# Altium integrated library NSC Interface.IntLib: 511 symbols (part 8 of 17)
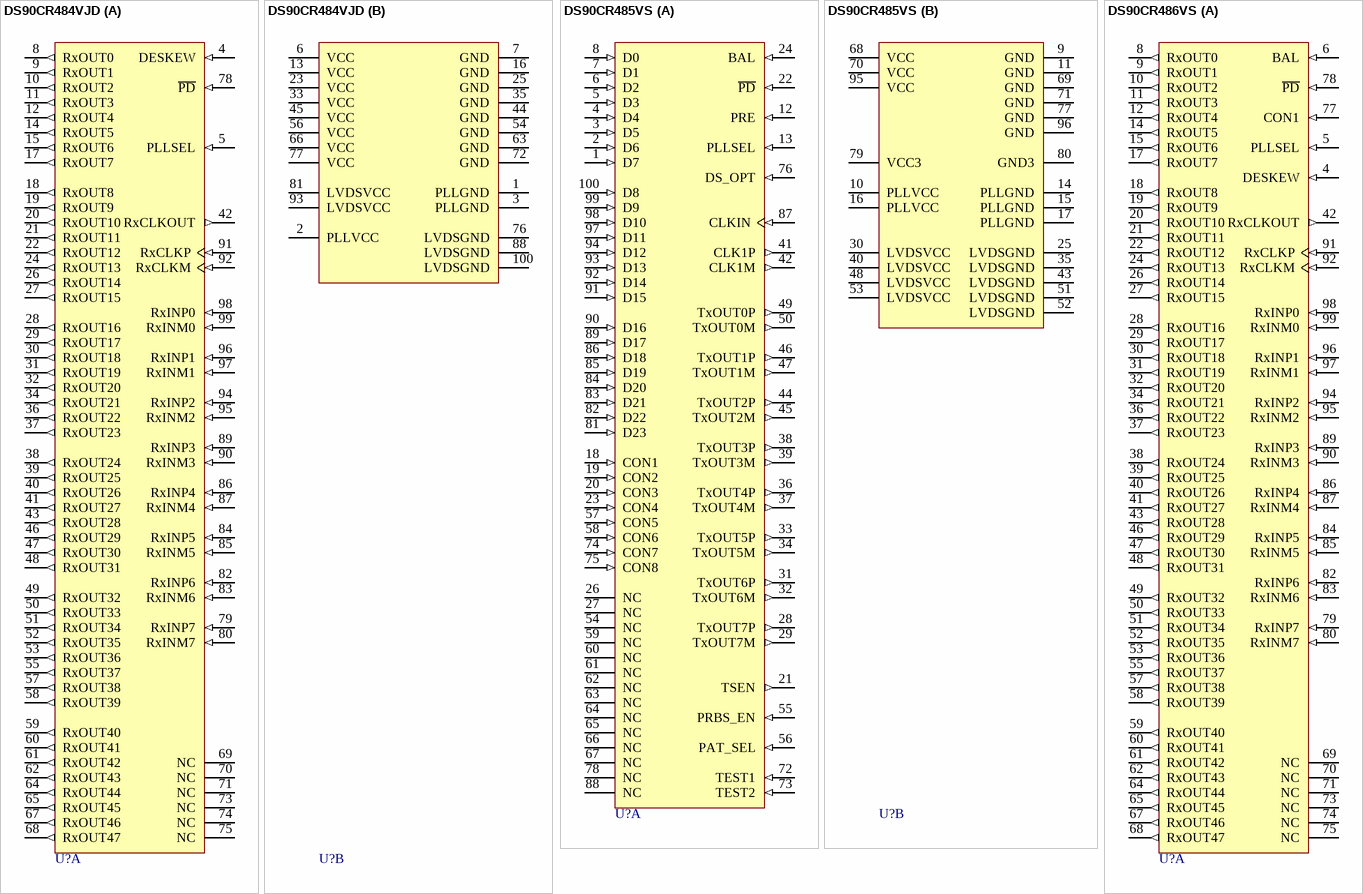
[diagram p49: symbols DS90CR484VJD to DS90CR486VS]

## DS90CR485VS
designator U?
133MHz LVDS 48-bit Channel Link Serializer; PartNumber: DS90CR485VS; Manufacturer: National Semiconductor; CompType: Interface IC; PackageTopMarking: NSUZXYYTT*DS90CR485VS*BBBBB; PowerWise: N; Published: 4-Dec-2008; DatasheetVersion: Sep-2003; PackageVersion: revC, May-2004; PackageReference: VJD100A; Publisher: Altium Limited; PackageDescription: TQFP, Jedec, Metric, 14 x 14 x 1.0mm, 100 Lead; RoHS: O; PinCount: 100; DigiKeyPartNumber: DS90CR485VS-ND; Code_JEDEC: MS-026-AED; ComponentLink1Description: DS90CR485 Datasheet; ComponentLink1URL: http://www.national.com/ds/DS/DS90CR485.pdf; ComponentLink2Description: DS90CR485 Web Page; ComponentLink2URL: http://www.national.com/pf/DS/DS90CR485.html; ComponentLink3Description: VJD100A Package Page; ComponentLink3URL: http://www.national.com/packaging/folders/vjd100a.html
footprint VJD100A_N (Thin QFP, 100-Leads, Body 14x14mm, Pitch 0.5mm, IPC Medium Density)
footprint VJD100A_L (Thin QFP, 100-Leads, Body 14x14mm, Pitch 0.5mm, IPC High Density)
footprint VJD100A_M (Thin QFP, 100-Leads, Body 14x14mm, Pitch 0.5mm, IPC Low Density)
part A pins: 1 D7 (in), 2 D6 (in), 3 D5 (in), 4 D4 (in), 5 D3 (in), 6 D2 (in), 7 D1 (in), 8 D0 (in), 12 PRE (in), 13 PLLSEL (in), 18 CON1 (in), 19 CON2 (in), 20 CON3 (in), 21 TSEN (out), 22 ~{PD} (in), 23 CON4 (in), 24 BAL (in), 26 NC, 27 NC, 28 TxOUT7P (out), 29 TxOUT7M (out), 31 TxOUT6P (out), 32 TxOUT6M (out), 33 TxOUT5P (out), 34 TxOUT5M (out), 36 TxOUT4P (out), 37 TxOUT4M (out), 38 TxOUT3P (out), 39 TxOUT3M (out), 41 CLK1P (out), 42 CLK1M (out), 44 TxOUT2P (out), 45 TxOUT2M (out), 46 TxOUT1P (out), 47 TxOUT1M (out), 49 TxOUT0P (out), 50 TxOUT0M (out), 54 NC, 55 PRBS_EN (in), 56 PAT_SEL (in), 57 CON5 (in), 58 CON6 (in), 59 NC, 60 NC, 61 NC, 62 NC, 63 NC, 64 NC, 65 NC, 66 NC, 67 NC, 72 TEST1 (in), 73 TEST2 (in), 74 CON7 (in), 75 CON8 (in), 76 DS_OPT (in), 78 NC, 81 D23 (in), 82 D22 (in), 83 D21 (in), 84 D20 (in), 85 D19 (in), 86 D18 (in), 87 CLKIN (in), 88 NC, 89 D17 (in), 90 D16 (in), 91 D15 (in), 92 D14 (in), 93 D13 (in), 94 D12 (in), 97 D11 (in), 98 D10 (in), 99 D9 (in), 100 D8 (in)
part B pins: 9 GND (power), 10 PLLVCC (power), 11 GND (power), 14 PLLGND (power), 15 PLLGND (power), 16 PLLVCC (power), 17 PLLGND (power), 25 LVDSGND (power), 30 LVDSVCC (power), 35 LVDSGND (power), 40 LVDSVCC (power), 43 LVDSGND (power), 48 LVDSVCC (power), 51 LVDSGND (power), 52 LVDSGND (power), 53 LVDSVCC (power), 68 VCC (power), 69 GND (power), 70 VCC (power), 71 GND (power), 77 GND (power), 79 VCC3 (power), 80 GND3 (power), 95 VCC (power), 96 GND (power)

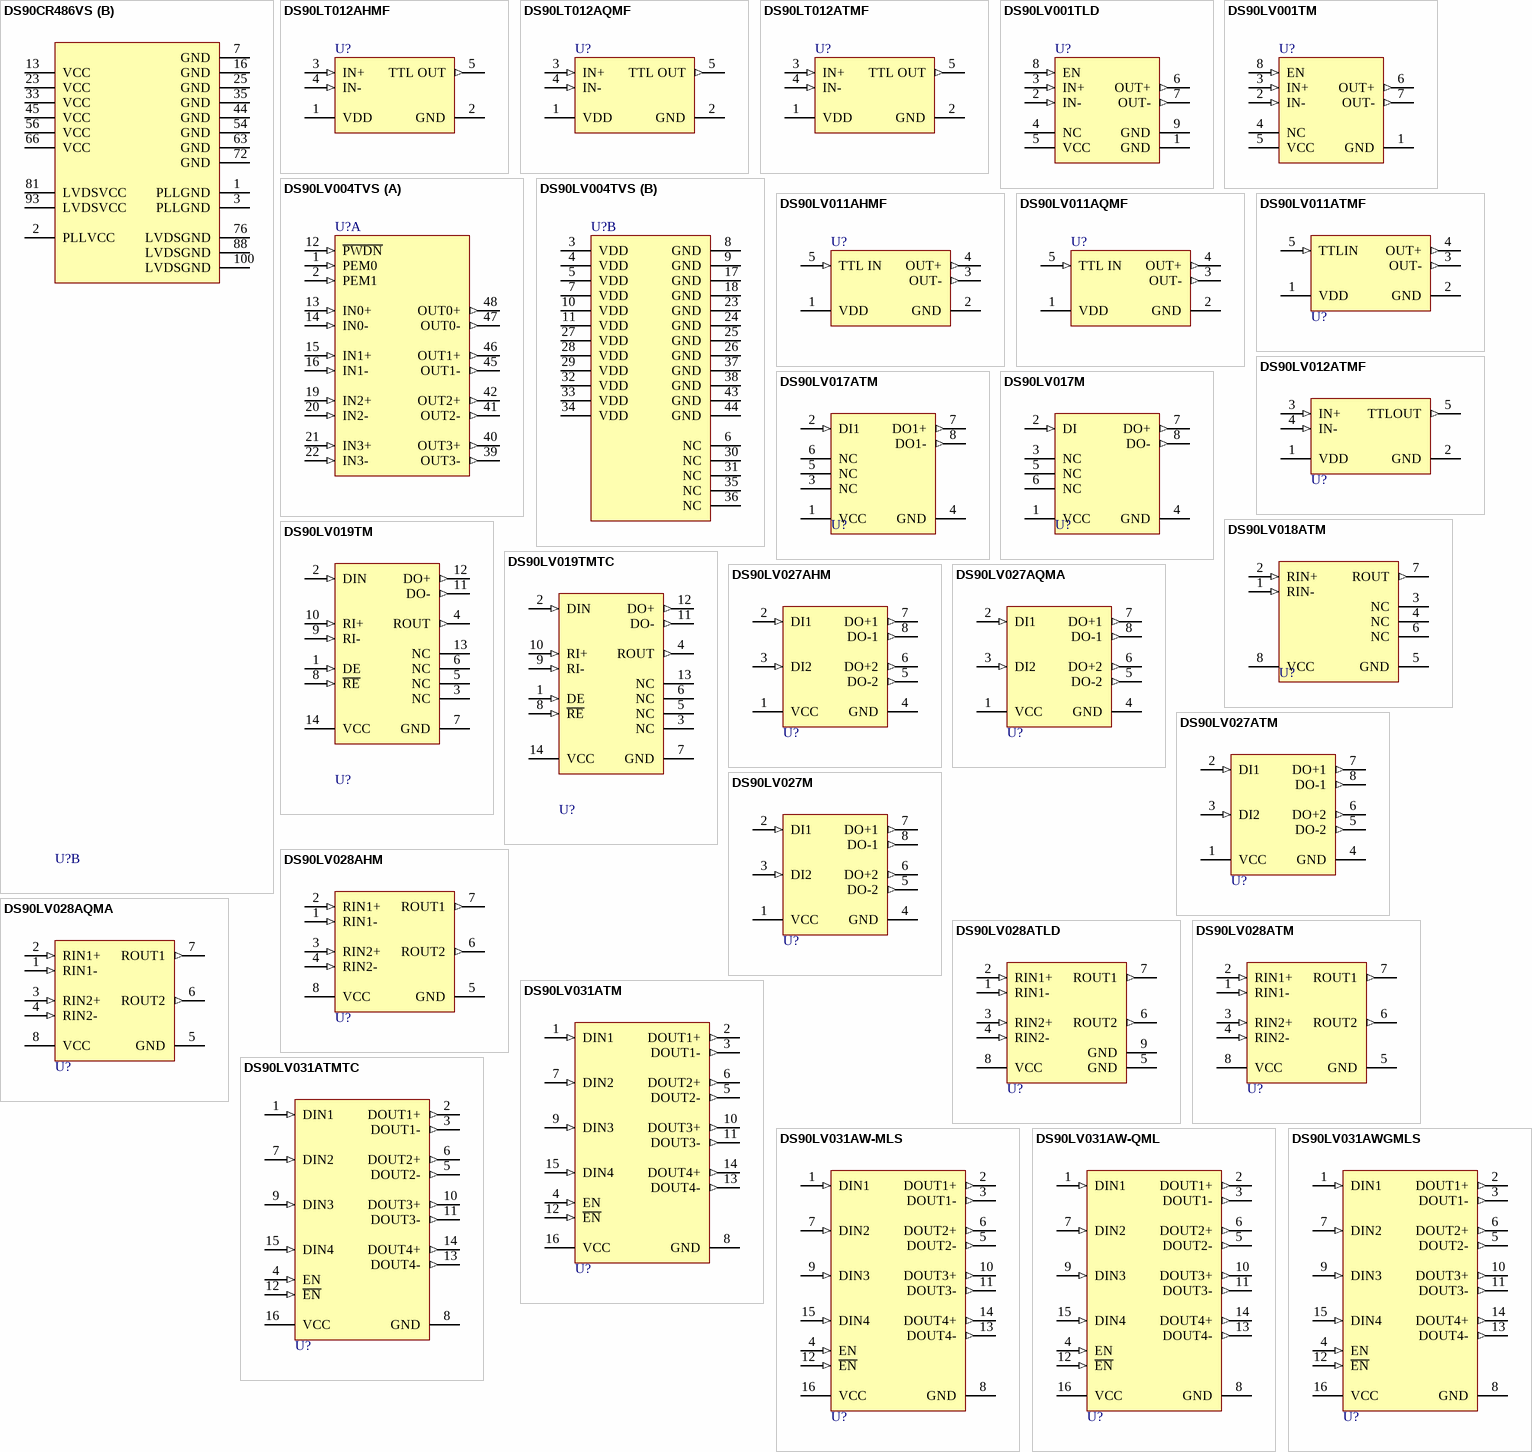
[diagram p22: symbols DS90CR486VS to DS90LV031AWGMLS]

## DS90CR486VS
designator U?
Deserializer; PartNumber: DS90CR486VS; Manufacturer: National Semiconductor; CompType: Interface IC; PackageTopMarking: NS2ZXYYTT*DS90CR486VS*BBBBB; PowerWise: N; Published: 4-Dec-2008; DatasheetVersion: Nov-2006; PackageVersion: revC, May-2004; PackageReference: VJD100A; Publisher: Altium Limited; PackageDescription: TQFP, Jedec, Metric, 14 x 14 x 1.0mm, 100 Lead; RoHS: O; PinCount: 100; DigiKeyPartNumber: DS90CR486VS-ND; Code_JEDEC: MS-026-AED; ComponentLink1Description: DS90CR486 Datasheet; ComponentLink1URL: http://www.national.com/ds/DS/DS90CR486.pdf; ComponentLink2Description: DS90CR486 Web Page; ComponentLink2URL: http://www.national.com/pf/DS/DS90CR486.html; ComponentLink3Description: VJD100A Package Page; ComponentLink3URL: http://www.national.com/packaging/folders/vjd100a.html
footprint VJD100A_N (Thin QFP, 100-Leads, Body 14x14mm, Pitch 0.5mm, IPC Medium Density)
footprint VJD100A_L (Thin QFP, 100-Leads, Body 14x14mm, Pitch 0.5mm, IPC High Density)
footprint VJD100A_M (Thin QFP, 100-Leads, Body 14x14mm, Pitch 0.5mm, IPC Low Density)
part A pins: 4 DESKEW (in), 5 PLLSEL (in), 6 BAL (in), 8 RxOUT0 (out), 9 RxOUT1 (out), 10 RxOUT2 (out), 11 RxOUT3 (out), 12 RxOUT4 (out), 14 RxOUT5 (out), 15 RxOUT6 (out), 17 RxOUT7 (out), 18 RxOUT8 (out), 19 RxOUT9 (out), 20 RxOUT10 (out), 21 RxOUT11 (out), 22 RxOUT12 (out), 24 RxOUT13 (out), 26 RxOUT14 (out), 27 RxOUT15 (out), 28 RxOUT16 (out), 29 RxOUT17 (out), 30 RxOUT18 (out), 31 RxOUT19 (out), 32 RxOUT20 (out), 34 RxOUT21 (out), 36 RxOUT22 (out), 37 RxOUT23 (out), 38 RxOUT24 (out), 39 RxOUT25 (out), 40 RxOUT26 (out), 41 RxOUT27 (out), 42 RxCLKOUT (out), 43 RxOUT28 (out), 46 RxOUT29 (out), 47 RxOUT30 (out), 48 RxOUT31 (out), 49 RxOUT32 (out), 50 RxOUT33 (out), 51 RxOUT34 (out), 52 RxOUT35 (out), 53 RxOUT36 (out), 55 RxOUT37 (out), 57 RxOUT38 (out), 58 RxOUT39 (out), 59 RxOUT40 (out), 60 RxOUT41 (out), 61 RxOUT42 (out), 62 RxOUT43 (out), 64 RxOUT44 (out), 65 RxOUT45 (out), 67 RxOUT46 (out), 68 RxOUT47 (out), 69 NC, 70 NC, 71 NC, 73 NC, 74 NC, 75 NC, 77 CON1 (in), 78 ~{PD} (in), 79 RxINP7 (in), 80 RxINM7 (in), 82 RxINP6 (in), 83 RxINM6 (in), 84 RxINP5 (in), 85 RxINM5 (in), 86 RxINP4 (in), 87 RxINM4 (in), 89 RxINP3 (in), 90 RxINM3 (in), 91 RxCLKP (in), 92 RxCLKM (in), 94 RxINP2 (in), 95 RxINM2 (in), 96 RxINP1 (in), 97 RxINM1 (in), 98 RxINP0 (in), 99 RxINM0 (in)
part B pins: 1 PLLGND (power), 2 PLLVCC (power), 3 PLLGND (power), 7 GND (power), 13 VCC (power), 16 GND (power), 23 VCC (power), 25 GND (power), 33 VCC (power), 35 GND (power), 44 GND (power), 45 VCC (power), 54 GND (power), 56 VCC (power), 63 GND (power), 66 VCC (power), 72 GND (power), 76 LVDSGND (power), 81 LVDSVCC (power), 88 LVDSGND (power), 93 LVDSVCC (power), 100 LVDSGND (power)

## DS90LT012AHMF
designator U?
High Temperature 3V LVDS Differential Line Receiver; PartNumber: DS90LT012AHMF; Manufacturer: National Semiconductor; CompType: Interface IC; PackageTopMarking: N05*XTT; Published: 4-Dec-2008; DatasheetVersion: Sep-2005; PackageVersion: revD, Aug-2008; PackageReference: MF05A; Publisher: Altium Limited; PackageDescription: Molded SOT-23, .115 x .063 x .040in Body, 5 Lead, .0375in Pitch; RoHS: O; PinCount: 5; DigiKeyPartNumber: DS90LT012AHMFTR-ND; ComponentLink1Description: DS90LT012AH Datasheet; ComponentLink1URL: http://www.national.com/ds/DS/DS90LT012AH.pdf; ComponentLink2Description: DS90LT012AH Web Page; ComponentLink2URL: http://www.national.com/pf/DS/DS90LT012AH.html; ComponentLink3Description: MF05A Package Page; ComponentLink3URL: http://www.national.com/packaging/folders/mf05a.html
footprint MF05A_N (SOT23, 5-Leads, Body 2.9x1.6mm, Pitch 0.95mm, Lead Span 2.8mm, IPC Medium Density)
footprint MF05A_L (SOT23, 5-Leads, Body 2.9x1.6mm, Pitch 0.95mm, Lead Span 2.8mm, IPC High Density)
footprint MF05A_M (SOT23, 5-Leads, Body 2.9x1.6mm, Pitch 0.95mm, Lead Span 2.8mm, IPC Low Density)
pins: 1 VDD (power), 2 GND (power), 3 IN+ (in), 4 IN- (in), 5 TTL OUT (out)

## DS90LT012AQMF
designator U?
Automotive LVDS Differential Line Receiver; PartNumber: DS90LT012AQMF; Manufacturer: National Semiconductor; CompType: Interface IC; PackageTopMarking: N03Q*XTT; PowerWise: N; Published: 4-Dec-2008; DatasheetVersion: Oct-2008; PackageVersion: revD, Aug-2008; PackageReference: MF05A; Publisher: Altium Limited; RoHS: Y; PinCount: 5; ComponentLink1Description: DS90LT012AQ Datasheet; ComponentLink1URL: http://www.national.com/ds/DS/DS90LT012AQ.pdf; ComponentLink2Description: DS90LT012AQ Web Page; ComponentLink2URL: http://www.national.com/pf/DS/DS90LT012AQ.html; ComponentLink3Description: MF05A Package Page; ComponentLink3URL: http://www.national.com/packaging/folders/mf05a.html
footprint MF05A_N (SOT23, 5-Leads, Body 2.9x1.6mm, Pitch 0.95mm, Lead Span 2.8mm, IPC Medium Density)
footprint MF05A_L (SOT23, 5-Leads, Body 2.9x1.6mm, Pitch 0.95mm, Lead Span 2.8mm, IPC High Density)
footprint MF05A_M (SOT23, 5-Leads, Body 2.9x1.6mm, Pitch 0.95mm, Lead Span 2.8mm, IPC Low Density)
pins: 1 VDD (power), 2 GND (power), 3 IN+ (in), 4 IN- (in), 5 TTL OUT (out)

## DS90LT012ATMF
designator U?
3V LVDS Single CMOS Differential Line Receiver; PartNumber: DS90LT012ATMF; Manufacturer: National Semiconductor; CompType: Interface IC; PackageTopMarking: N03*XTT; PowerWise: N; Published: 4-Dec-2008; DatasheetVersion: Mar-2008; PackageVersion: revD, Aug-2008; PackageReference: MF05A; Publisher: Altium Limited; PackageDescription: Molded SOT-23, .115 x .063 x .040in Body, 5 Lead, .0375in Pitch; RoHS: O; PinCount: 5; DigiKeyPartNumber: DS90LT012ATMFTR-ND; ComponentLink1Description: DS90LT012A Datasheet; ComponentLink1URL: http://www.national.com/ds/DS/DS90LT012A.pdf; ComponentLink2Description: DS90LT012A Web Page; ComponentLink2URL: http://www.national.com/pf/DS/DS90LT012A.html; ComponentLink3Description: MF05A Package Page; ComponentLink3URL: http://www.national.com/packaging/folders/mf05a.html
footprint MF05A_N (SOT23, 5-Leads, Body 2.9x1.6mm, Pitch 0.95mm, Lead Span 2.8mm, IPC Medium Density)
footprint MF05A_L (SOT23, 5-Leads, Body 2.9x1.6mm, Pitch 0.95mm, Lead Span 2.8mm, IPC High Density)
footprint MF05A_M (SOT23, 5-Leads, Body 2.9x1.6mm, Pitch 0.95mm, Lead Span 2.8mm, IPC Low Density)
pins: 1 VDD (power), 2 GND (power), 3 IN+ (in), 4 IN- (in), 5 TTL OUT (out)

## DS90LV001TLD
designator U?
800 Mbps LVDS Buffer; PartNumber: DS90LV001TLD; Manufacturer: National Semiconductor; CompType: Interface IC; PackageTopMarking: ZXYTT*001; PowerWise: N; Published: 4-Dec-2008; DatasheetVersion: Feb-2008; PackageVersion: revC, Nov-2002; PackageReference: LDA08A; Publisher: Altium Limited; PackageDescription: LLP, Plastic, Dual, 3 x 3 x 0.75mm Body, 8 Lead, 0.5mm Pitch; RoHS: Y; PinCount: 8; DigiKeyPartNumber: DS90LV001TLDTR-ND; ComponentLink1Description: DS90LV001 Datasheet; ComponentLink1URL: http://www.national.com/ds/DS/DS90LV001.pdf; ComponentLink2Description: DS90LV001 Web Page; ComponentLink2URL: http://www.national.com/pf/DS/DS90LV001.html; ComponentLink3Description: LDA08A Package Page; ComponentLink3URL: http://www.national.com/packaging/folders/lda08a.html
footprint LDA08A (PSON, 8-Leads, Body 3x3mm, Pitch 0.5mm, NSC Recommended)
pins: 1 GND (power), 2 IN- (in), 3 IN+ (in), 4 NC, 5 VCC (power), 6 OUT+ (out), 7 OUT- (out), 8 EN (in), 9 GND (power)

## DS90LV001TM
designator U?
800 Mbps LVDS Buffer; PartNumber: DS90LV001TM; Manufacturer: National Semiconductor; CompType: Interface IC; PackageTopMarking: NSZXTT*LV001*TM; PowerWise: N; Published: 4-Dec-2008; DatasheetVersion: Feb-2008; PackageVersion: revL, Sep-2006; PackageReference: M08A; Publisher: Altium Limited; PackageDescription: SOIC Narrow, 4.9 x 3.9 x 1.45mm, 8 Lead, 1.27mm Pitch; RoHS: O; PinCount: 8; DigiKeyPartNumber: DS90LV001TM-ND; Code_JEDEC: MS-012-AA; Code_IPC: SOIC127P600-8; ComponentLink1Description: DS90LV001 Datasheet; ComponentLink1URL: http://www.national.com/ds/DS/DS90LV001.pdf; ComponentLink2Description: DS90LV001 Web Page; ComponentLink2URL: http://www.national.com/pf/DS/DS90LV001.html; ComponentLink3Description: M08A Package Page; ComponentLink3URL: http://www.national.com/packaging/folders/m08a.html
footprint M08A_N (SOIC, 8-Leads, Body 4.9x3.9mm, Pitch 1.27mm, IPC Medium Density)
footprint M08A_L (SOIC, 8-Leads, Body 4.9x3.9mm, Pitch 1.27mm, IPC High Density)
footprint M08A_M (SOIC, 8-Leads, Body 4.9x3.9mm, Pitch 1.27mm, IPC Low Density)
pins: 1 GND (power), 2 IN- (in), 3 IN+ (in), 4 NC, 5 VCC (power), 6 OUT+ (out), 7 OUT- (out), 8 EN (in)

## DS90LV004TVS
designator U?
4-Channel LVDS Buffer/Repeaters with Pre-Emphasis; PartNumber: DS90LV004TVS; Manufacturer: National Semiconductor; CompType: Interface IC; PackageTopMarking: NSUZXYTT*DS90LV*004TVS; PowerWise: N; Published: 4-Dec-2008; DatasheetVersion: Oct-2007; PackageVersion: revA, Apr-2000; PackageReference: VBC48A; Publisher: Altium Limited; PackageDescription: TQFP, Jedec Metric, 7 x 7 x 1mm, 48 Lead, 0.5mm Pitch; RoHS: O; PinCount: 48; DigiKeyPartNumber: DS90LV004TVS-ND; Code_JEDEC: MS-026-ABC; ComponentLink1Description: DS90LV004 Datasheet; ComponentLink1URL: http://www.national.com/ds/DS/DS90LV004.pdf; ComponentLink2Description: DS90LV004 Web Page; ComponentLink2URL: http://www.national.com/pf/DS/DS90LV004.html; ComponentLink3Description: VBC48A Package Page; ComponentLink3URL: http://www.national.com/packaging/folders/vbc48a.html
footprint VBC48A_N (Thin QFP, 48-Leads, Body 7x7mm, Pitch 0.5mm, IPC Medium Density)
footprint VBC48A_L (Thin QFP, 48-Leads, Body 7x7mm, Pitch 0.5mm, IPC High Density)
footprint VBC48A_M (Thin QFP, 48-Leads, Body 7x7mm, Pitch 0.5mm, IPC Low Density)
part A pins: 1 PEM0 (in), 2 PEM1 (in), 12 ~{PWDN} (in), 13 IN0+ (in), 14 IN0- (in), 15 IN1+ (in), 16 IN1- (in), 19 IN2+ (in), 20 IN2- (in), 21 IN3+ (in), 22 IN3- (in), 39 OUT3- (out), 40 OUT3+ (out), 41 OUT2- (out), 42 OUT2+ (out), 45 OUT1- (out), 46 OUT1+ (out), 47 OUT0- (out), 48 OUT0+ (out)
part B pins: 3 VDD (power), 4 VDD (power), 5 VDD (power), 6 NC, 7 VDD (power), 8 GND (power), 9 GND (power), 10 VDD (power), 11 VDD (power), 17 GND (power), 18 GND (power), 23 GND (power), 24 GND (power), 25 GND (power), 26 GND (power), 27 VDD (power), 28 VDD (power), 29 VDD (power), 30 NC, 31 NC, 32 VDD (power), 33 VDD (power), 34 VDD (power), 35 NC, 36 NC, 37 GND (power), 38 GND (power), 43 GND (power), 44 GND (power)

## DS90LV011AHMF
designator U?
High Temperature 3V LVDS Differential Driver; PartNumber: DS90LV011AHMF; Manufacturer: National Semiconductor; CompType: Interface IC; PackageTopMarking: N04*XTT; Published: 4-Dec-2008; DatasheetVersion: Sep-2005; PackageVersion: revD, Aug-2008; PackageReference: MF05A; Publisher: Altium Limited; PackageDescription: Molded SOT-23, .115 x .063 x .040in Body, 5 Lead, .0375in Pitch; RoHS: Y; PinCount: 5; DigiKeyPartNumber: DS90LV011AHMFTR-ND; ComponentLink1Description: DS90LV011AH Datasheet; ComponentLink1URL: http://www.national.com/ds/DS/DS90LV011AH.pdf; ComponentLink2Description: DS90LV011AH Web Page; ComponentLink2URL: http://www.national.com/pf/DS/DS90LV011AH.html; ComponentLink3Description: MF05A Package Page; ComponentLink3URL: http://www.national.com/packaging/folders/mf05a.html
footprint MF05A_N (SOT23, 5-Leads, Body 2.9x1.6mm, Pitch 0.95mm, Lead Span 2.8mm, IPC Medium Density)
footprint MF05A_L (SOT23, 5-Leads, Body 2.9x1.6mm, Pitch 0.95mm, Lead Span 2.8mm, IPC High Density)
footprint MF05A_M (SOT23, 5-Leads, Body 2.9x1.6mm, Pitch 0.95mm, Lead Span 2.8mm, IPC Low Density)
pins: 1 VDD (power), 2 GND (power), 3 OUT- (out), 4 OUT+ (out), 5 TTL IN (in)

## DS90LV011AQMF
designator U?
Automotive LVDS Differential Driver; PartNumber: DS90LV011AQMF; Manufacturer: National Semiconductor; CompType: Interface IC; PackageTopMarking: N01Q*XTT; PowerWise: N; Published: 4-Dec-2008; DatasheetVersion: Oct-2008; PackageVersion: revD, Aug-2008; PackageReference: MF05A; Publisher: Altium Limited; RoHS: Y; PinCount: 5; ComponentLink1Description: DS90LV011AQ Datasheet; ComponentLink1URL: http://www.national.com/ds/DS/DS90LV011AQ.pdf; ComponentLink2Description: DS90LV011AQ Web Page; ComponentLink2URL: http://www.national.com/pf/DS/DS90LV011AQ.html; ComponentLink3Description: MF05A Package Page; ComponentLink3URL: http://www.national.com/packaging/folders/mf05a.html
footprint MF05A_N (SOT23, 5-Leads, Body 2.9x1.6mm, Pitch 0.95mm, Lead Span 2.8mm, IPC Medium Density)
footprint MF05A_L (SOT23, 5-Leads, Body 2.9x1.6mm, Pitch 0.95mm, Lead Span 2.8mm, IPC High Density)
footprint MF05A_M (SOT23, 5-Leads, Body 2.9x1.6mm, Pitch 0.95mm, Lead Span 2.8mm, IPC Low Density)
pins: 1 VDD (power), 2 GND (power), 3 OUT- (out), 4 OUT+ (out), 5 TTL IN (in)

## DS90LV011ATMF
designator U?
Single High Speed Differential Driver; PartNumber: DS90LV011ATMF; Manufacturer: National Semiconductor; CompType: Interface IC; PackageTopMarking: N01*XTT; PowerWise: N; Published: 4-Dec-2008; DatasheetVersion: May-2002; PackageVersion: revD, Aug-2008; PackageReference: MF05A; Publisher: Altium Limited; PackageDescription: Molded SOT-23, .115 x .063 x .040in Body, 5 Lead, .0375in Pitch; RoHS: O; PinCount: 5; DigiKeyPartNumber: DS90LV011ATMFTR-ND; ComponentLink1Description: DS90LV011A Datasheet; ComponentLink1URL: http://www.national.com/ds/DS/DS90LV011A.pdf; ComponentLink2Description: DS90LV011A Web Page; ComponentLink2URL: http://www.national.com/pf/DS/DS90LV011A.html; ComponentLink3Description: MF05A Package Page; ComponentLink3URL: http://www.national.com/packaging/folders/mf05a.html
footprint MF05A_N (SOT23, 5-Leads, Body 2.9x1.6mm, Pitch 0.95mm, Lead Span 2.8mm, IPC Medium Density)
footprint MF05A_L (SOT23, 5-Leads, Body 2.9x1.6mm, Pitch 0.95mm, Lead Span 2.8mm, IPC High Density)
footprint MF05A_M (SOT23, 5-Leads, Body 2.9x1.6mm, Pitch 0.95mm, Lead Span 2.8mm, IPC Low Density)
pins: 1 VDD (power), 2 GND (power), 3 OUT- (out), 4 OUT+ (out), 5 TTLIN (in)

## DS90LV012ATMF
designator U?
3V LVDS Single CMOS Differential Line Receiver; PartNumber: DS90LV012ATMF; Manufacturer: National Semiconductor; CompType: Interface IC; PackageTopMarking: N02*XTT; PowerWise: N; Published: 4-Dec-2008; DatasheetVersion: Mar-2008; PackageVersion: revD, Aug-2008; PackageReference: MF05A; Publisher: Altium Limited; PackageDescription: Molded SOT-23, .115 x .063 x .040in Body, 5 Lead, .0375in Pitch; RoHS: O; PinCount: 5; ComponentLink1Description: DS90LV012A Datasheet; ComponentLink1URL: http://www.national.com/ds/DS/DS90LV012A.pdf; ComponentLink2Description: DS90LV012A Web Page; ComponentLink2URL: http://www.national.com/pf/DS/DS90LV012A.html; ComponentLink3Description: MF05A Package Page; ComponentLink3URL: http://www.national.com/packaging/folders/mf05a.html
footprint MF05A_N (SOT23, 5-Leads, Body 2.9x1.6mm, Pitch 0.95mm, Lead Span 2.8mm, IPC Medium Density)
footprint MF05A_L (SOT23, 5-Leads, Body 2.9x1.6mm, Pitch 0.95mm, Lead Span 2.8mm, IPC High Density)
footprint MF05A_M (SOT23, 5-Leads, Body 2.9x1.6mm, Pitch 0.95mm, Lead Span 2.8mm, IPC Low Density)
pins: 1 VDD (power), 2 GND (power), 3 IN+ (in), 4 IN- (in), 5 TTLOUT (out)

## DS90LV017ATM
designator U?
Single High Speed Differential Driver; PartNumber: DS90LV017ATM; Manufacturer: National Semiconductor; CompType: Interface IC; PackageTopMarking: NSZXTT*LV17A*TM; PowerWise: N; Published: 4-Dec-2008; DatasheetVersion: Aug-2005; PackageVersion: revL, Sep-2006; PackageReference: M08A; Publisher: Altium Limited; PackageDescription: SOIC Narrow, 4.9 x 3.9 x 1.45mm, 8 Lead, 1.27mm Pitch; RoHS: O; PinCount: 8; DigiKeyPartNumber: DS90LV017ATM-ND; Code_JEDEC: MS-012-AA; Code_IPC: SOIC127P600-8; ComponentLink1Description: DS90LV017A Datasheet; ComponentLink1URL: http://www.national.com/ds/DS/DS90LV017A.pdf; ComponentLink2Description: DS90LV017A Web Page; ComponentLink2URL: http://www.national.com/pf/DS/DS90LV017A.html; ComponentLink3Description: M08A Package Page; ComponentLink3URL: http://www.national.com/packaging/folders/m08a.html
footprint M08A_N (SOIC, 8-Leads, Body 4.9x3.9mm, Pitch 1.27mm, IPC Medium Density)
footprint M08A_L (SOIC, 8-Leads, Body 4.9x3.9mm, Pitch 1.27mm, IPC High Density)
footprint M08A_M (SOIC, 8-Leads, Body 4.9x3.9mm, Pitch 1.27mm, IPC Low Density)
pins: 1 VCC (power), 2 DI1 (in), 3 NC, 4 GND (power), 5 NC, 6 NC, 7 DO1+ (out), 8 DO1- (out)

## DS90LV017M
designator U?
Single High Speed Differential Driver; PartNumber: DS90LV017M; Manufacturer: National Semiconductor; CompType: Interface IC; PackageTopMarking: NSZXTT*90LV*017M; Published: 4-Dec-2008; DatasheetVersion: Aug-2005; PackageVersion: revL, Sep-2006; PackageReference: M08A; Publisher: Altium Limited; PackageDescription: SOIC Narrow, 4.9 x 3.9 x 1.45mm, 8 Lead, 1.27mm Pitch; RoHS: O; PinCount: 8; DigiKeyPartNumber: DS90LV017M-ND; Code_JEDEC: MS-012-AA; Code_IPC: SOIC127P600-8; ComponentLink1Description: DS90LV017 Datasheet; ComponentLink1URL: http://www.national.com/ds/DS/DS90LV017.pdf; ComponentLink2Description: DS90LV017 Web Page; ComponentLink2URL: http://www.national.com/pf/DS/DS90LV017.html; ComponentLink3Description: M08A Package Page; ComponentLink3URL: http://www.national.com/packaging/folders/m08a.html
footprint M08A_N (SOIC, 8-Leads, Body 4.9x3.9mm, Pitch 1.27mm, IPC Medium Density)
footprint M08A_L (SOIC, 8-Leads, Body 4.9x3.9mm, Pitch 1.27mm, IPC High Density)
footprint M08A_M (SOIC, 8-Leads, Body 4.9x3.9mm, Pitch 1.27mm, IPC Low Density)
pins: 1 VCC (power), 2 DI (in), 3 NC, 4 GND (power), 5 NC, 6 NC, 7 DO+ (out), 8 DO- (out)

## DS90LV018ATM
designator U?
3V LVDS Single CMOS Differential Line Receiver; PartNumber: DS90LV018ATM; Manufacturer: National Semiconductor; CompType: Interface IC; PackageTopMarking: NSZXTT*90LV0*18ATM; PowerWise: N; Published: 4-Dec-2008; DatasheetVersion: Aug-2005; PackageVersion: revL, Sep-2006; PackageReference: M08A; Publisher: Altium Limited; PackageDescription: SOIC Narrow, 4.9 x 3.9 x 1.45mm, 8 Lead, 1.27mm Pitch; RoHS: O; PinCount: 8; DigiKeyPartNumber: DS90LV018ATM-ND; Code_JEDEC: MS-012-AA; Code_IPC: SOIC127P600-8; ComponentLink1Description: DS90LV018A Datasheet; ComponentLink1URL: http://www.national.com/ds/DS/DS90LV018A.pdf; ComponentLink2Description: DS90LV018A Web Page; ComponentLink2URL: http://www.national.com/pf/DS/DS90LV018A.html; ComponentLink3Description: M08A Package Page; ComponentLink3URL: http://www.national.com/packaging/folders/m08a.html
footprint M08A_N (SOIC, 8-Leads, Body 4.9x3.9mm, Pitch 1.27mm, IPC Medium Density)
footprint M08A_L (SOIC, 8-Leads, Body 4.9x3.9mm, Pitch 1.27mm, IPC High Density)
footprint M08A_M (SOIC, 8-Leads, Body 4.9x3.9mm, Pitch 1.27mm, IPC Low Density)
pins: 1 RIN- (in), 2 RIN+ (in), 3 NC, 4 NC, 5 GND (power), 6 NC, 7 ROUT (out), 8 VCC (power)

## DS90LV019TM
designator U?
3.3V or 5V LVDS Driver/Receiver; PartNumber: DS90LV019TM; Manufacturer: National Semiconductor; CompType: Interface IC; PackageTopMarking: NSUZXYTT*DS90LV019*TM; PowerWise: N; Published: 4-Dec-2008; DatasheetVersion: Aug-2000; PackageVersion: revJ, Jan-1996; PackageReference: M14A; Publisher: Altium Limited; PackageDescription: Molded Package, S.O., .150in Wide, 14 Lead; RoHS: O; PinCount: 14; DigiKeyPartNumber: DS90LV019TM-ND; Code_JEDEC: MS-012AB; Code_IPC: SOIC127P600-14; ComponentLink1Description: DS90LV019 Datasheet; ComponentLink1URL: http://www.national.com/ds/DS/DS90LV019.pdf; ComponentLink2Description: DS90LV019 Web Page; ComponentLink2URL: http://www.national.com/pf/DS/DS90LV019.html; ComponentLink3Description: M14A Package Page; ComponentLink3URL: http://www.national.com/packaging/folders/m14a.html
footprint M14A_N (SOIC, 14-Leads, Body 8.6x3.9mm, Pitch 1.27mm, IPC Medium Density)
footprint M14A_L (SOIC, 14-Leads, Body 8.6x3.9mm, Pitch 1.27mm, IPC High Density)
footprint M14A_M (SOIC, 14-Leads, Body 8.6x3.9mm, Pitch 1.27mm, IPC Low Density)
pins: 1 DE (in), 2 DIN (in), 3 NC, 4 ROUT (out), 5 NC, 6 NC, 7 GND (power), 8 ~{RE} (in), 9 RI- (in), 10 RI+ (in), 11 DO- (out), 12 DO+ (out), 13 NC, 14 VCC (power)

## DS90LV019TMTC
designator U?
3.3V or 5V LVDS Driver/Receiver; PartNumber: DS90LV019TMTC; Manufacturer: National Semiconductor; CompType: Interface IC; PackageTopMarking: NSZXYTT*LV019T*MTC; PowerWise: N; Published: 4-Dec-2008; DatasheetVersion: Aug-2000; PackageVersion: revD, Jun-2003; PackageReference: MTC14; Publisher: Altium Limited; PackageDescription: Molded TSSOP, JEDEC, 5 x 4.4 x 0.9mm Body, 14 Lead, 0.65mm Pitch; RoHS: O; PinCount: 14; DigiKeyPartNumber: DS90LV019TMTC-ND; Code_JEDEC: MO-153-AB-1; ComponentLink1Description: DS90LV019 Datasheet; ComponentLink1URL: http://www.national.com/ds/DS/DS90LV019.pdf; ComponentLink2Description: DS90LV019 Web Page; ComponentLink2URL: http://www.national.com/pf/DS/DS90LV019.html; ComponentLink3Description: MTC14 Package Page; ComponentLink3URL: http://www.national.com/packaging/folders/mtc14.html
footprint MTC14_N (TSOP, 14-Leads, Body 5x4.4mm, Pitch 0.65mm, IPC Medium Density)
footprint MTC14_L (TSOP, 14-Leads, Body 5x4.4mm, Pitch 0.65mm, IPC High Density)
footprint MTC14_M (TSOP, 14-Leads, Body 5x4.4mm, Pitch 0.65mm, IPC Low Density)
pins: 1 DE (in), 2 DIN (in), 3 NC, 4 ROUT (out), 5 NC, 6 NC, 7 GND (power), 8 ~{RE} (in), 9 RI- (in), 10 RI+ (in), 11 DO- (out), 12 DO+ (out), 13 NC, 14 VCC (power)

## DS90LV027AHM
designator U?
High Temperature LVDS Dual Differential Driver; PartNumber: DS90LV027AHM; Manufacturer: National Semiconductor; CompType: Interface IC; PackageTopMarking: NSZXTT*LV27A*HM; Published: 4-Dec-2008; DatasheetVersion: Sep-2005; PackageVersion: revL, Sep-2006; PackageReference: M08A; Publisher: Altium Limited; PackageDescription: SOIC Narrow, 4.9 x 3.9 x 1.45mm, 8 Lead, 1.27mm Pitch; RoHS: Y; PinCount: 8; DigiKeyPartNumber: DS90LV027AHM-ND; Code_JEDEC: MS-012-AA; Code_IPC: SOIC127P600-8; ComponentLink1Description: DS90LV027AH Datasheet; ComponentLink1URL: http://www.national.com/ds/DS/DS90LV027AH.pdf; ComponentLink2Description: DS90LV027AH Web Page; ComponentLink2URL: http://www.national.com/pf/DS/DS90LV027AH.html; ComponentLink3Description: M08A Package Page; ComponentLink3URL: http://www.national.com/packaging/folders/m08a.html
footprint M08A_N (SOIC, 8-Leads, Body 4.9x3.9mm, Pitch 1.27mm, IPC Medium Density)
footprint M08A_L (SOIC, 8-Leads, Body 4.9x3.9mm, Pitch 1.27mm, IPC High Density)
footprint M08A_M (SOIC, 8-Leads, Body 4.9x3.9mm, Pitch 1.27mm, IPC Low Density)
pins: 1 VCC (power), 2 DI1 (in), 3 DI2 (in), 4 GND (power), 5 DO-2 (out), 6 DO+2 (out), 7 DO+1 (out), 8 DO-1 (out)

## DS90LV027AQMA
designator U?
Automotive LVDS Dual Differential Driver; PartNumber: DS90LV027AQMA; Manufacturer: National Semiconductor; CompType: Interface IC; PackageTopMarking: NSZXTT*90LV0*27AQM; PowerWise: N; Published: 4-Dec-2008; DatasheetVersion: Oct-2008; PackageVersion: revL, Sep-2006; PackageReference: M08A; Publisher: Altium Limited; RoHS: Y; PinCount: 8; DigiKeyPartNumber: DS90LV027AQMA-ND; Code_JEDEC: MS-012-AA; Code_IPC: SOIC127P600-8; ComponentLink1Description: DS90LV027AQ Datasheet; ComponentLink1URL: http://www.national.com/ds/DS/DS90LV027AQ.pdf; ComponentLink2Description: DS90LV027AQ Web Page; ComponentLink2URL: http://www.national.com/pf/DS/DS90LV027AQ.html; ComponentLink3Description: M08A Package Page; ComponentLink3URL: http://www.national.com/packaging/folders/m08a.html
footprint M08A_N (SOIC, 8-Leads, Body 4.9x3.9mm, Pitch 1.27mm, IPC Medium Density)
footprint M08A_L (SOIC, 8-Leads, Body 4.9x3.9mm, Pitch 1.27mm, IPC High Density)
footprint M08A_M (SOIC, 8-Leads, Body 4.9x3.9mm, Pitch 1.27mm, IPC Low Density)
pins: 1 VCC (power), 2 DI1 (in), 3 DI2 (in), 4 GND (power), 5 DO-2 (out), 6 DO+2 (out), 7 DO+1 (out), 8 DO-1 (out)

## DS90LV027ATM
designator U?
LVDS Dual High Speed Differential Driver; PartNumber: DS90LV027ATM; Manufacturer: National Semiconductor; CompType: Interface IC; PackageTopMarking: NSZXTT*LV27A*TM; PowerWise: N; Published: 4-Dec-2008; DatasheetVersion: Aug-2005; PackageVersion: revL, Sep-2006; PackageReference: M08A; Publisher: Altium Limited; PackageDescription: SOIC Narrow, 4.9 x 3.9 x 1.45mm, 8 Lead, 1.27mm Pitch; RoHS: O; PinCount: 8; DigiKeyPartNumber: DS90LV027ATM-ND; Code_JEDEC: MS-012-AA; Code_IPC: SOIC127P600-8; ComponentLink1Description: DS90LV027A Datasheet; ComponentLink1URL: http://www.national.com/ds/DS/DS90LV027A.pdf; ComponentLink2Description: DS90LV027A Web Page; ComponentLink2URL: http://www.national.com/pf/DS/DS90LV027A.html; ComponentLink3Description: M08A Package Page; ComponentLink3URL: http://www.national.com/packaging/folders/m08a.html
footprint M08A_N (SOIC, 8-Leads, Body 4.9x3.9mm, Pitch 1.27mm, IPC Medium Density)
footprint M08A_L (SOIC, 8-Leads, Body 4.9x3.9mm, Pitch 1.27mm, IPC High Density)
footprint M08A_M (SOIC, 8-Leads, Body 4.9x3.9mm, Pitch 1.27mm, IPC Low Density)
pins: 1 VCC (power), 2 DI1 (in), 3 DI2 (in), 4 GND (power), 5 DO-2 (out), 6 DO+2 (out), 7 DO+1 (out), 8 DO-1 (out)

## DS90LV027M
designator U?
LVDS Dual High Speed Differential Driver; PartNumber: DS90LV027M; Manufacturer: National Semiconductor; CompType: Interface IC; PackageTopMarking: NSZXTT*90LV*027M; PowerWise: N; Published: 4-Dec-2008; DatasheetVersion: Aug-2005; PackageVersion: revL, Sep-2006; PackageReference: M08A; Publisher: Altium Limited; PackageDescription: SOIC Narrow, 4.9 x 3.9 x 1.45mm, 8 Lead, 1.27mm Pitch; RoHS: Y; PinCount: 8; DigiKeyPartNumber: DS90LV027M-ND; Code_JEDEC: MS-012-AA; Code_IPC: SOIC127P600-8; ComponentLink1Description: DS90LV027 Datasheet; ComponentLink1URL: http://www.national.com/ds/DS/DS90LV027.pdf; ComponentLink2Description: DS90LV027 Web Page; ComponentLink2URL: http://www.national.com/pf/DS/DS90LV027.html; ComponentLink3Description: M08A Package Page; ComponentLink3URL: http://www.national.com/packaging/folders/m08a.html
footprint M08A_N (SOIC, 8-Leads, Body 4.9x3.9mm, Pitch 1.27mm, IPC Medium Density)
footprint M08A_L (SOIC, 8-Leads, Body 4.9x3.9mm, Pitch 1.27mm, IPC High Density)
footprint M08A_M (SOIC, 8-Leads, Body 4.9x3.9mm, Pitch 1.27mm, IPC Low Density)
pins: 1 VCC (power), 2 DI1 (in), 3 DI2 (in), 4 GND (power), 5 DO-2 (out), 6 DO+2 (out), 7 DO+1 (out), 8 DO-1 (out)

## DS90LV028AHM
designator U?
High Temperature 3V LVDS Dual CMOS Differential Line Receiver; PartNumber: DS90LV028AHM; Manufacturer: National Semiconductor; CompType: Interface IC; PackageTopMarking: NSZXTT*90LV0*28AHM; Published: 4-Dec-2008; DatasheetVersion: Sep-2005; PackageVersion: revL, Sep-2006; PackageReference: M08A; Publisher: Altium Limited; PackageDescription: SOIC Narrow, 4.9 x 3.9 x 1.45mm, 8 Lead, 1.27mm Pitch; RoHS: Y; PinCount: 8; DigiKeyPartNumber: DS90LV028AHM-ND; Code_JEDEC: MS-012-AA; Code_IPC: SOIC127P600-8; ComponentLink1Description: DS90LV028AH Datasheet; ComponentLink1URL: http://www.national.com/ds/DS/DS90LV028AH.pdf; ComponentLink2Description: DS90LV028AH Web Page; ComponentLink2URL: http://www.national.com/pf/DS/DS90LV028AH.html; ComponentLink3Description: M08A Package Page; ComponentLink3URL: http://www.national.com/packaging/folders/m08a.html
footprint M08A_N (SOIC, 8-Leads, Body 4.9x3.9mm, Pitch 1.27mm, IPC Medium Density)
footprint M08A_L (SOIC, 8-Leads, Body 4.9x3.9mm, Pitch 1.27mm, IPC High Density)
footprint M08A_M (SOIC, 8-Leads, Body 4.9x3.9mm, Pitch 1.27mm, IPC Low Density)
pins: 1 RIN1- (in), 2 RIN1+ (in), 3 RIN2+ (in), 4 RIN2- (in), 5 GND (power), 6 ROUT2 (out), 7 ROUT1 (out), 8 VCC (power)

## DS90LV028AQMA
designator U?
Automotive LVDS Dual Differential Line Receiver; PartNumber: DS90LV028AQMA; Manufacturer: National Semiconductor; CompType: Interface IC; PackageTopMarking: NSZXTT*90LV0*28AQM; PowerWise: N; Published: 4-Dec-2008; DatasheetVersion: Oct-2008; PackageVersion: revL, Sep-2006; PackageReference: M08A; Publisher: Altium Limited; RoHS: Y; PinCount: 8; DigiKeyPartNumber: DS90LV028AQMA-ND; Code_JEDEC: MS-012-AA; Code_IPC: SOIC127P600-8; ComponentLink1Description: DS90LV028AQ Datasheet; ComponentLink1URL: http://www.national.com/ds/DS/DS90LV028AQ.pdf; ComponentLink2Description: DS90LV028AQ Web Page; ComponentLink2URL: http://www.national.com/pf/DS/DS90LV028AQ.html; ComponentLink3Description: M08A Package Page; ComponentLink3URL: http://www.national.com/packaging/folders/m08a.html
footprint M08A_N (SOIC, 8-Leads, Body 4.9x3.9mm, Pitch 1.27mm, IPC Medium Density)
footprint M08A_L (SOIC, 8-Leads, Body 4.9x3.9mm, Pitch 1.27mm, IPC High Density)
footprint M08A_M (SOIC, 8-Leads, Body 4.9x3.9mm, Pitch 1.27mm, IPC Low Density)
pins: 1 RIN1- (in), 2 RIN1+ (in), 3 RIN2+ (in), 4 RIN2- (in), 5 GND (power), 6 ROUT2 (out), 7 ROUT1 (out), 8 VCC (power)

## DS90LV028ATLD
designator U?
3V LVDS Dual CMOS Differential Line Receiver; PartNumber: DS90LV028ATLD; Manufacturer: National Semiconductor; CompType: Interface IC; PackageTopMarking: NS*2ZXYTT*LV028AT; PowerWise: N; Published: 4-Dec-2008; DatasheetVersion: Aug-2005; PackageVersion: revB, Jun-2003; PackageReference: LDC08A; Publisher: Altium Limited; PackageDescription: LLP, Plastic, Dual, 4 x 4 x 0.75mm Body, 8 Lead, 0.8mm Pitch; RoHS: Y; PinCount: 8; DigiKeyPartNumber: DS90LV028ATLDTR-ND; ComponentLink1Description: DS90LV028A Datasheet; ComponentLink1URL: http://www.national.com/ds/DS/DS90LV028A.pdf; ComponentLink2Description: DS90LV028A Web Page; ComponentLink2URL: http://www.national.com/pf/DS/DS90LV028A.html; ComponentLink3Description: LDC08A Package Page; ComponentLink3URL: http://www.national.com/packaging/folders/ldc08a.html
footprint LDC08A (PSON, 8-Leads, Body 4x4mm, Pitch 0.8mm, NSC Recommended)
pins: 1 RIN1- (in), 2 RIN1+ (in), 3 RIN2+ (in), 4 RIN2- (in), 5 GND (power), 6 ROUT2 (out), 7 ROUT1 (out), 8 VCC (power), 9 GND (power)

## DS90LV028ATM
designator U?
3V LVDS Dual CMOS Differential Line Receiver; PartNumber: DS90LV028ATM; Manufacturer: National Semiconductor; CompType: Interface IC; PackageTopMarking: NSZXTT*90LV0*28ATM; PowerWise: N; Published: 4-Dec-2008; DatasheetVersion: Aug-2005; PackageVersion: revL, Sep-2006; PackageReference: M08A; Publisher: Altium Limited; PackageDescription: SOIC Narrow, 4.9 x 3.9 x 1.45mm, 8 Lead, 1.27mm Pitch; RoHS: O; PinCount: 8; DigiKeyPartNumber: DS90LV028ATM-ND; Code_JEDEC: MS-012-AA; Code_IPC: SOIC127P600-8; ComponentLink1Description: DS90LV028A Datasheet; ComponentLink1URL: http://www.national.com/ds/DS/DS90LV028A.pdf; ComponentLink2Description: DS90LV028A Web Page; ComponentLink2URL: http://www.national.com/pf/DS/DS90LV028A.html; ComponentLink3Description: M08A Package Page; ComponentLink3URL: http://www.national.com/packaging/folders/m08a.html
footprint M08A_N (SOIC, 8-Leads, Body 4.9x3.9mm, Pitch 1.27mm, IPC Medium Density)
footprint M08A_L (SOIC, 8-Leads, Body 4.9x3.9mm, Pitch 1.27mm, IPC High Density)
footprint M08A_M (SOIC, 8-Leads, Body 4.9x3.9mm, Pitch 1.27mm, IPC Low Density)
pins: 1 RIN1- (in), 2 RIN1+ (in), 3 RIN2+ (in), 4 RIN2- (in), 5 GND (power), 6 ROUT2 (out), 7 ROUT1 (out), 8 VCC (power)

## DS90LV031ATM
designator U?
3V LVDS Quad CMOS Differential Line Driver; PartNumber: DS90LV031ATM; Manufacturer: National Semiconductor; CompType: Interface IC; PackageTopMarking: NS2ZXYTT*DS90LV031A*TM; PowerWise: N; Published: 4-Dec-2008; DatasheetVersion: Jul-1999; PackageVersion: revJ, Aug-1995; PackageReference: M16A; Publisher: Altium Limited; PackageDescription: Molded Package, S.O., .150in Wide, 16 Lead; RoHS: O; PinCount: 16; DigiKeyPartNumber: DS90LV031ATM-ND; Code_JEDEC: MS-012-AC; Code_IPC: SOIC127P600-16; ComponentLink1Description: DS90LV031A Datasheet; ComponentLink1URL: http://www.national.com/ds/DS/DS90LV031A.pdf; ComponentLink2Description: DS90LV031A Web Page; ComponentLink2URL: http://www.national.com/pf/DS/DS90LV031A.html; ComponentLink3Description: M16A Package Page; ComponentLink3URL: http://www.national.com/packaging/folders/m16a.html
footprint M16A_N (SOIC, 16-Leads, Body 9.9x3.9mm, Pitch 1.27mm, IPC Medium Density)
footprint M16A_L (SOIC, 16-Leads, Body 9.9x3.9mm, Pitch 1.27mm, IPC High Density)
footprint M16A_M (SOIC, 16-Leads, Body 9.9x3.9mm, Pitch 1.27mm, IPC Low Density)
pins: 1 DIN1 (in), 2 DOUT1+ (out), 3 DOUT1- (out), 4 EN (in), 5 DOUT2- (out), 6 DOUT2+ (out), 7 DIN2 (in), 8 GND (power), 9 DIN3 (in), 10 DOUT3+ (out), 11 DOUT3- (out), 12 ~{EN} (in), 13 DOUT4- (out), 14 DOUT4+ (out), 15 DIN4 (in), 16 VCC (power)

## DS90LV031ATMTC
designator U?
3V LVDS Quad CMOS Differential Line Driver; PartNumber: DS90LV031ATMTC; Manufacturer: National Semiconductor; CompType: Interface IC; PackageTopMarking: NS2ZXYTT*DS90LV*031AT; PowerWise: N; Published: 4-Dec-2008; DatasheetVersion: Jul-1999; PackageVersion: revD, Jun-2003; PackageReference: MTC16; Publisher: Altium Limited; PackageDescription: Molded TSSOP, Jedec, 5 x 4.4 x 0.9mm Body, 16 Lead, 0.65mm Pitch; RoHS: O; PinCount: 16; DigiKeyPartNumber: DS90LV031ATMTC-ND; Code_JEDEC: MO-153-AB; ComponentLink1Description: DS90LV031A Datasheet; ComponentLink1URL: http://www.national.com/ds/DS/DS90LV031A.pdf; ComponentLink2Description: DS90LV031A Web Page; ComponentLink2URL: http://www.national.com/pf/DS/DS90LV031A.html; ComponentLink3Description: MTC16 Package Page; ComponentLink3URL: http://www.national.com/packaging/folders/mtc16.html
footprint MTC16_N (TSOP, 16-Leads, Body 5x4.4mm, Pitch 0.65mm, IPC Medium Density)
footprint MTC16_L (TSOP, 16-Leads, Body 5x4.4mm, Pitch 0.65mm, IPC High Density)
footprint MTC16_M (TSOP, 16-Leads, Body 5x4.4mm, Pitch 0.65mm, IPC Low Density)
pins: 1 DIN1 (in), 2 DOUT1+ (out), 3 DOUT1- (out), 4 EN (in), 5 DOUT2- (out), 6 DOUT2+ (out), 7 DIN2 (in), 8 GND (power), 9 DIN3 (in), 10 DOUT3+ (out), 11 DOUT3- (out), 12 ~{EN} (in), 13 DOUT4- (out), 14 DOUT4+ (out), 15 DIN4 (in), 16 VCC (power)

## DS90LV031AW-MLS
designator U?
3V LVDS Quad CMOS Differential Line Driver; PartNumber: DS90LV031AW-MLS; Manufacturer: National Semiconductor; CompType: Interface IC; PackageTopMarking: NSZSSXXYYA*DS90LV031AW-*MLS; PowerWise: N; MilaeroCode: IXX; Published: 29-May-2009; DatasheetVersion: Jul-1999; PackageVersion: revT, Jul-2005; PackageReference: W16A; Publisher: Altium Limited; RoHS: N; PinCount: 16; Code_JEDEC: MO-092-AC; ComponentLink1Description: DS90LV031A Datasheet; ComponentLink1URL: http://www.national.com/ds/DS/DS90LV031A.pdf; ComponentLink2Description: DS90LV031A Web Page; ComponentLink2URL: http://www.national.com/pf/DS/DS90LV031A.html; ComponentLink3Description: W16A Package Page; ComponentLink3URL: http://www.national.com/packaging/folders/w16a.html
footprint W16A (DFP; 16 Leads; Body 9.9 x 7.6 mm (LxW max); Pitch 1.27 mm)
pins: 1 DIN1 (in), 2 DOUT1+ (out), 3 DOUT1- (out), 4 EN (in), 5 DOUT2- (out), 6 DOUT2+ (out), 7 DIN2 (in), 8 GND (power), 9 DIN3 (in), 10 DOUT3+ (out), 11 DOUT3- (out), 12 ~{EN} (in), 13 DOUT4- (out), 14 DOUT4+ (out), 15 DIN4 (in), 16 VCC (power)

## DS90LV031AW-QML
designator U?
3V LVDS Quad CMOS Differential Line Driver; PartNumber: DS90LV031AW-QML; Manufacturer: National Semiconductor; CompType: Interface IC; PackageTopMarking: NSZSSXXYYA*DS90LV031AW*-QML Q 5962*-9865101QFA; PowerWise: N; MilaeroCode: B88; Published: 29-May-2009; DatasheetVersion: Jul-1999; PackageVersion: revT, Jul-2005; PackageReference: W16A; Publisher: Altium Limited; RoHS: N; PinCount: 16; Code_JEDEC: MO-092-AC; ComponentLink1Description: DS90LV031A Datasheet; ComponentLink1URL: http://www.national.com/ds/DS/DS90LV031A.pdf; ComponentLink2Description: DS90LV031A Web Page; ComponentLink2URL: http://www.national.com/pf/DS/DS90LV031A.html; ComponentLink3Description: W16A Package Page; ComponentLink3URL: http://www.national.com/packaging/folders/w16a.html
footprint W16A (DFP; 16 Leads; Body 9.9 x 7.6 mm (LxW max); Pitch 1.27 mm)
pins: 1 DIN1 (in), 2 DOUT1+ (out), 3 DOUT1- (out), 4 EN (in), 5 DOUT2- (out), 6 DOUT2+ (out), 7 DIN2 (in), 8 GND (power), 9 DIN3 (in), 10 DOUT3+ (out), 11 DOUT3- (out), 12 ~{EN} (in), 13 DOUT4- (out), 14 DOUT4+ (out), 15 DIN4 (in), 16 VCC (power)

## DS90LV031AWGMLS
designator U?
3V LVDS Quad CMOS Differential Line Driver; PartNumber: DS90LV031AWGMLS; Manufacturer: National Semiconductor; CompType: Interface IC; PackageTopMarking: NSZSSXXYYA*DS90LV031AWG*MLS; PowerWise: N; MilaeroCode: IXX; Published: 29-May-2009; DatasheetVersion: Jul-1999; PackageVersion: revE, Jul-2007; PackageReference: WG16A; Publisher: Altium Limited; RoHS: N; PinCount: 16; ComponentLink1Description: DS90LV031A Datasheet; ComponentLink1URL: http://www.national.com/ds/DS/DS90LV031A.pdf; ComponentLink2Description: DS90LV031A Web Page; ComponentLink2URL: http://www.national.com/pf/DS/DS90LV031A.html; ComponentLink3Description: WG16A Package Page; ComponentLink3URL: http://www.national.com/packaging/folders/wg16a.html
footprint WG16A_N (CERPACK, 16-Leads, Body 9.9x6.5mm, Pitch 1.27mm, IPC Medium Density)
footprint WG16A_L (CERPACK, 16-Leads, Body 9.9x6.5mm, Pitch 1.27mm, IPC High Density)
footprint WG16A_M (CERPACK, 16-Leads, Body 9.9x6.5mm, Pitch 1.27mm, IPC Low Density)
pins: 1 DIN1 (in), 2 DOUT1+ (out), 3 DOUT1- (out), 4 EN (in), 5 DOUT2- (out), 6 DOUT2+ (out), 7 DIN2 (in), 8 GND (power), 9 DIN3 (in), 10 DOUT3+ (out), 11 DOUT3- (out), 12 ~{EN} (in), 13 DOUT4- (out), 14 DOUT4+ (out), 15 DIN4 (in), 16 VCC (power)

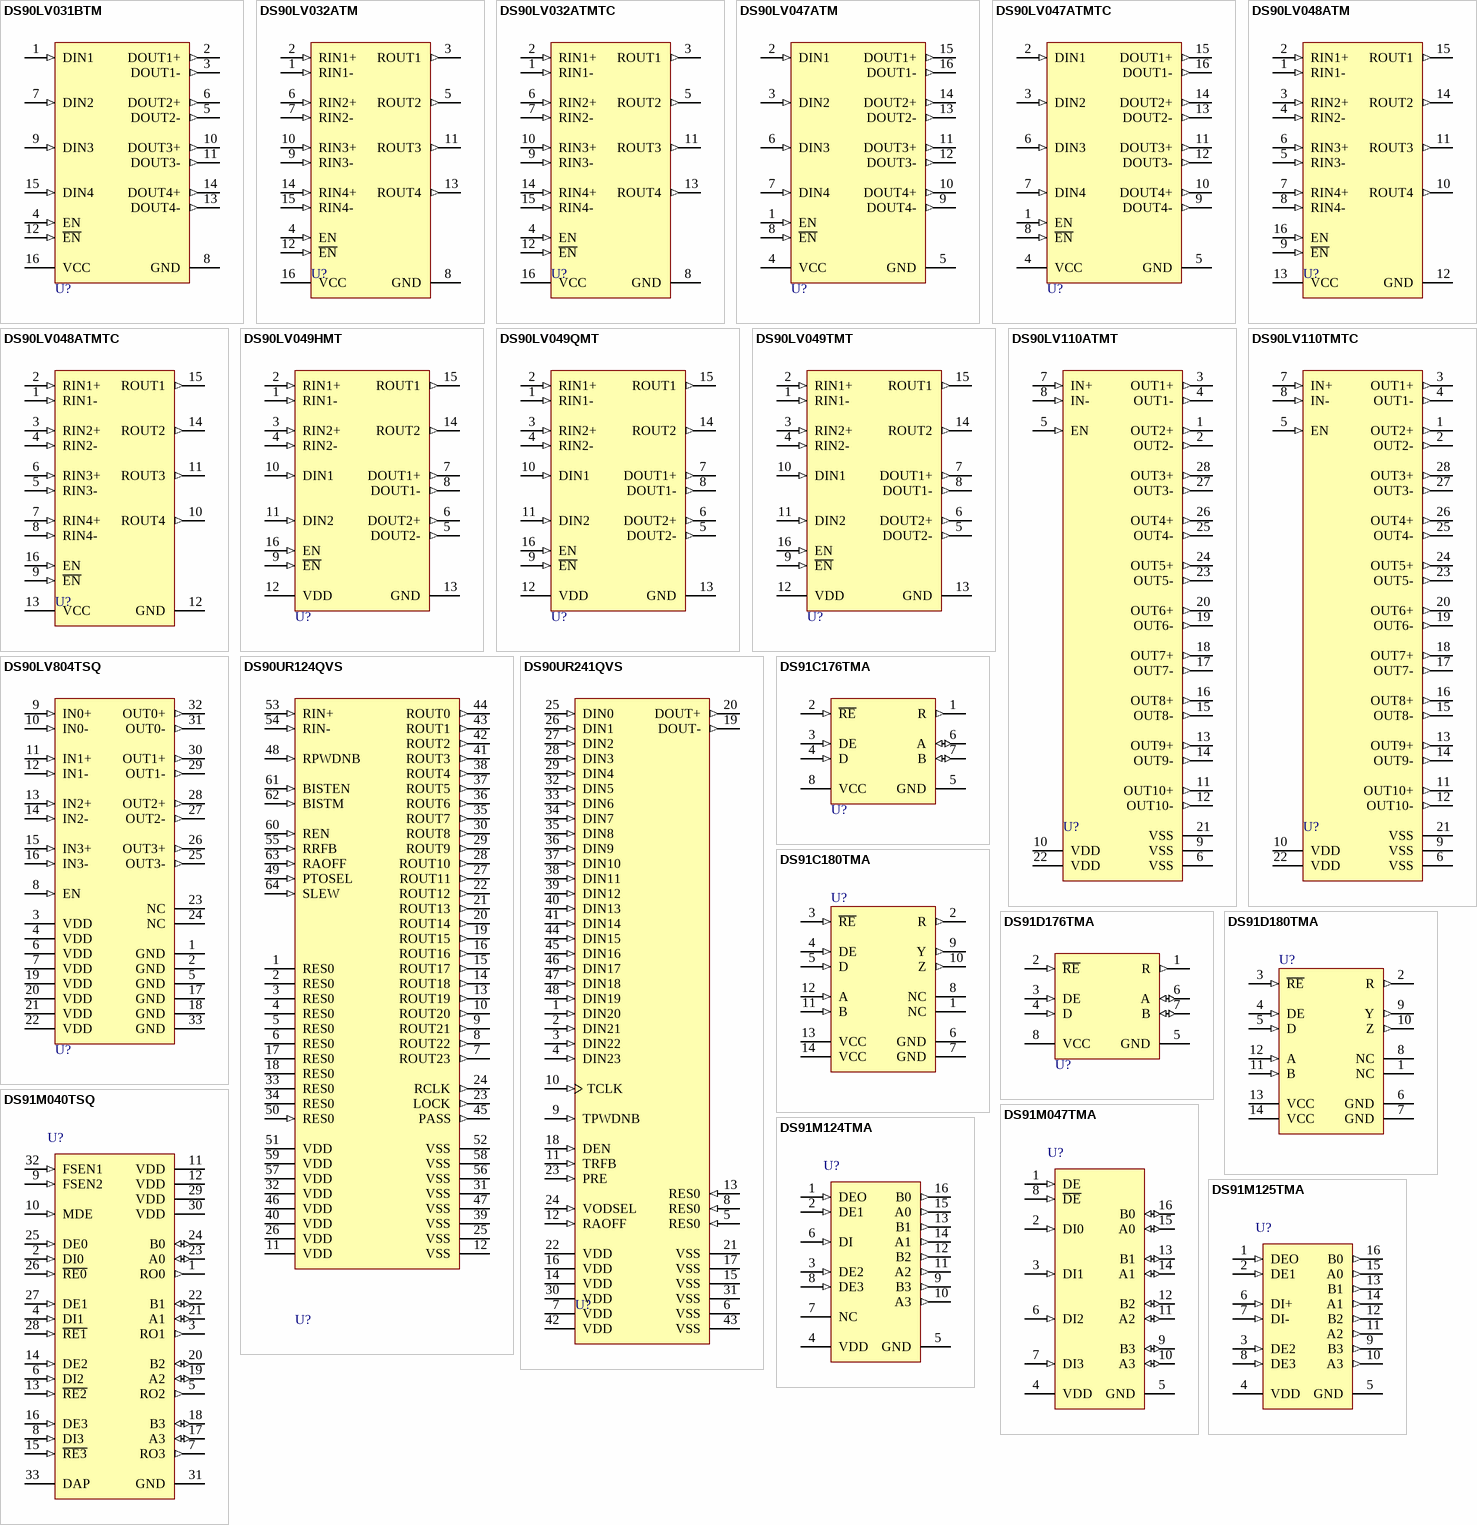
[diagram p23: symbols DS90LV031BTM to DS91M125TMA]

## DS90LV031BTM
designator U?
3V LVDS Quad CMOS Differential Line Driver; PartNumber: DS90LV031BTM; Manufacturer: National Semiconductor; CompType: Interface IC; PackageTopMarking: NS2ZXYTT*DS90LV031B*TM; Published: 4-Dec-2008; DatasheetVersion: Apr-2008; PackageVersion: revJ, Aug-1995; PackageReference: M16A; Publisher: Altium Limited; PackageDescription: Molded Package, S.O., .150in Wide, 16 Lead; RoHS: O; PinCount: 16; DigiKeyPartNumber: DS90LV031BTM-ND; Code_JEDEC: MS-012-AC; Code_IPC: SOIC127P600-16; ComponentLink1Description: DS90LV031B Datasheet; ComponentLink1URL: http://www.national.com/ds/DS/DS90LV031B.pdf; ComponentLink2Description: DS90LV031B Web Page; ComponentLink2URL: http://www.national.com/pf/DS/DS90LV031B.html; ComponentLink3Description: M16A Package Page; ComponentLink3URL: http://www.national.com/packaging/folders/m16a.html
footprint M16A_N (SOIC, 16-Leads, Body 9.9x3.9mm, Pitch 1.27mm, IPC Medium Density)
footprint M16A_L (SOIC, 16-Leads, Body 9.9x3.9mm, Pitch 1.27mm, IPC High Density)
footprint M16A_M (SOIC, 16-Leads, Body 9.9x3.9mm, Pitch 1.27mm, IPC Low Density)
pins: 1 DIN1 (in), 2 DOUT1+ (out), 3 DOUT1- (out), 4 EN (in), 5 DOUT2- (out), 6 DOUT2+ (out), 7 DIN2 (in), 8 GND (power), 9 DIN3 (in), 10 DOUT3+ (out), 11 DOUT3- (out), 12 ~{EN} (in), 13 DOUT4- (out), 14 DOUT4+ (out), 15 DIN4 (in), 16 VCC (power)

## DS90LV032ATM
designator U?
3V LVDS Quad CMOS Differential Line Receiver; PartNumber: DS90LV032ATM; Manufacturer: National Semiconductor; CompType: Interface IC; PackageTopMarking: NS2ZXYTT*DS90LV032A*TM; PowerWise: N; Published: 4-Dec-2008; DatasheetVersion: Jul-1999; PackageVersion: revJ, Aug-1995; PackageReference: M16A; Publisher: Altium Limited; PackageDescription: Molded Package, S.O., .150in Wide, 16 Lead; RoHS: O; PinCount: 16; DigiKeyPartNumber: DS90LV032ATM-ND; Code_JEDEC: MS-012-AC; Code_IPC: SOIC127P600-16; ComponentLink1Description: DS90LV032A Datasheet; ComponentLink1URL: http://www.national.com/ds/DS/DS90LV032A.pdf; ComponentLink2Description: DS90LV032A Web Page; ComponentLink2URL: http://www.national.com/pf/DS/DS90LV032A.html; ComponentLink3Description: M16A Package Page; ComponentLink3URL: http://www.national.com/packaging/folders/m16a.html
footprint M16A_N (SOIC, 16-Leads, Body 9.9x3.9mm, Pitch 1.27mm, IPC Medium Density)
footprint M16A_L (SOIC, 16-Leads, Body 9.9x3.9mm, Pitch 1.27mm, IPC High Density)
footprint M16A_M (SOIC, 16-Leads, Body 9.9x3.9mm, Pitch 1.27mm, IPC Low Density)
pins: 1 RIN1- (in), 2 RIN1+ (in), 3 ROUT1 (out), 4 EN (in), 5 ROUT2 (out), 6 RIN2+ (in), 7 RIN2- (in), 8 GND (power), 9 RIN3- (in), 10 RIN3+ (in), 11 ROUT3 (out), 12 ~{EN} (in), 13 ROUT4 (out), 14 RIN4+ (in), 15 RIN4- (in), 16 VCC (power)

## DS90LV032ATMTC
designator U?
3V LVDS Quad CMOS Differential Line Receiver; PartNumber: DS90LV032ATMTC; Manufacturer: National Semiconductor; CompType: Interface IC; PackageTopMarking: NS2ZXYTT*DS90LV*032AT; PowerWise: N; Published: 4-Dec-2008; DatasheetVersion: Jul-1999; PackageVersion: revD, Jun-2003; PackageReference: MTC16; Publisher: Altium Limited; PackageDescription: Molded TSSOP, Jedec, 5 x 4.4 x 0.9mm Body, 16 Lead, 0.65mm Pitch; RoHS: O; PinCount: 16; DigiKeyPartNumber: DS90LV032ATMTC-ND; Code_JEDEC: MO-153-AB; ComponentLink1Description: DS90LV032A Datasheet; ComponentLink1URL: http://www.national.com/ds/DS/DS90LV032A.pdf; ComponentLink2Description: DS90LV032A Web Page; ComponentLink2URL: http://www.national.com/pf/DS/DS90LV032A.html; ComponentLink3Description: MTC16 Package Page; ComponentLink3URL: http://www.national.com/packaging/folders/mtc16.html
footprint MTC16_N (TSOP, 16-Leads, Body 5x4.4mm, Pitch 0.65mm, IPC Medium Density)
footprint MTC16_L (TSOP, 16-Leads, Body 5x4.4mm, Pitch 0.65mm, IPC High Density)
footprint MTC16_M (TSOP, 16-Leads, Body 5x4.4mm, Pitch 0.65mm, IPC Low Density)
pins: 1 RIN1- (in), 2 RIN1+ (in), 3 ROUT1 (out), 4 EN (in), 5 ROUT2 (out), 6 RIN2+ (in), 7 RIN2- (in), 8 GND (power), 9 RIN3- (in), 10 RIN3+ (in), 11 ROUT3 (out), 12 ~{EN} (in), 13 ROUT4 (out), 14 RIN4+ (in), 15 RIN4- (in), 16 VCC (power)

## DS90LV047ATM
designator U?
3V LVDS Quad CMOS Differential Line Driver; PartNumber: DS90LV047ATM; Manufacturer: National Semiconductor; CompType: Interface IC; PackageTopMarking: NS2ZXYTT*DS90LV047A*TM; PowerWise: N; Published: 4-Dec-2008; DatasheetVersion: Jan-2003; PackageVersion: revJ, Aug-1995; PackageReference: M16A; Publisher: Altium Limited; PackageDescription: Molded Package, S.O., .150in Wide, 16 Lead; RoHS: O; PinCount: 16; DigiKeyPartNumber: DS90LV047ATM/DRSN-ND; Code_JEDEC: MS-012-AC; Code_IPC: SOIC127P600-16; ComponentLink1Description: DS90LV047A Datasheet; ComponentLink1URL: http://www.national.com/ds/DS/DS90LV047A.pdf; ComponentLink2Description: DS90LV047A Web Page; ComponentLink2URL: http://www.national.com/pf/DS/DS90LV047A.html; ComponentLink3Description: M16A Package Page; ComponentLink3URL: http://www.national.com/packaging/folders/m16a.html
footprint M16A_N (SOIC, 16-Leads, Body 9.9x3.9mm, Pitch 1.27mm, IPC Medium Density)
footprint M16A_L (SOIC, 16-Leads, Body 9.9x3.9mm, Pitch 1.27mm, IPC High Density)
footprint M16A_M (SOIC, 16-Leads, Body 9.9x3.9mm, Pitch 1.27mm, IPC Low Density)
pins: 1 EN (in), 2 DIN1 (in), 3 DIN2 (in), 4 VCC (power), 5 GND (power), 6 DIN3 (in), 7 DIN4 (in), 8 ~{EN} (in), 9 DOUT4- (out), 10 DOUT4+ (out), 11 DOUT3+ (out), 12 DOUT3- (out), 13 DOUT2- (out), 14 DOUT2+ (out), 15 DOUT1+ (out), 16 DOUT1- (out)

## DS90LV047ATMTC
designator U?
3V LVDS Quad CMOS Differential Line Driver; PartNumber: DS90LV047ATMTC; Manufacturer: National Semiconductor; CompType: Interface IC; PackageTopMarking: NS2ZXYTT*DS90LV*047AT; PowerWise: N; Published: 4-Dec-2008; DatasheetVersion: Jan-2003; PackageVersion: revD, Jun-2003; PackageReference: MTC16; Publisher: Altium Limited; PackageDescription: Molded TSSOP, Jedec, 5 x 4.4 x 0.9mm Body, 16 Lead, 0.65mm Pitch; RoHS: O; PinCount: 16; DigiKeyPartNumber: DS90LV047ATMTC/DRPB-; Code_JEDEC: MO-153-AB; ComponentLink1Description: DS90LV047A Datasheet; ComponentLink1URL: http://www.national.com/ds/DS/DS90LV047A.pdf; ComponentLink2Description: DS90LV047A Web Page; ComponentLink2URL: http://www.national.com/pf/DS/DS90LV047A.html; ComponentLink3Description: MTC16 Package Page; ComponentLink3URL: http://www.national.com/packaging/folders/mtc16.html
footprint MTC16_N (TSOP, 16-Leads, Body 5x4.4mm, Pitch 0.65mm, IPC Medium Density)
footprint MTC16_L (TSOP, 16-Leads, Body 5x4.4mm, Pitch 0.65mm, IPC High Density)
footprint MTC16_M (TSOP, 16-Leads, Body 5x4.4mm, Pitch 0.65mm, IPC Low Density)
pins: 1 EN (in), 2 DIN1 (in), 3 DIN2 (in), 4 VCC (power), 5 GND (power), 6 DIN3 (in), 7 DIN4 (in), 8 ~{EN} (in), 9 DOUT4- (out), 10 DOUT4+ (out), 11 DOUT3+ (out), 12 DOUT3- (out), 13 DOUT2- (out), 14 DOUT2+ (out), 15 DOUT1+ (out), 16 DOUT1- (out)

## DS90LV048ATM
designator U?
3V LVDS Quad CMOS Differential Line Receiver; PartNumber: DS90LV048ATM; Manufacturer: National Semiconductor; CompType: Interface IC; PackageTopMarking: NS2ZXYTT*DS90LV048A*TM; PowerWise: N; Published: 4-Dec-2008; DatasheetVersion: May-2001; PackageVersion: revJ, Aug-1995; PackageReference: M16A; Publisher: Altium Limited; PackageDescription: Molded Package, S.O., .150in Wide, 16 Lead; RoHS: O; PinCount: 16; DigiKeyPartNumber: DS90LV048ATM/DRSN-ND; Code_JEDEC: MS-012-AC; Code_IPC: SOIC127P600-16; ComponentLink1Description: DS90LV048A Datasheet; ComponentLink1URL: http://www.national.com/ds/DS/DS90LV048A.pdf; ComponentLink2Description: DS90LV048A Web Page; ComponentLink2URL: http://www.national.com/pf/DS/DS90LV048A.html; ComponentLink3Description: M16A Package Page; ComponentLink3URL: http://www.national.com/packaging/folders/m16a.html
footprint M16A_N (SOIC, 16-Leads, Body 9.9x3.9mm, Pitch 1.27mm, IPC Medium Density)
footprint M16A_L (SOIC, 16-Leads, Body 9.9x3.9mm, Pitch 1.27mm, IPC High Density)
footprint M16A_M (SOIC, 16-Leads, Body 9.9x3.9mm, Pitch 1.27mm, IPC Low Density)
pins: 1 RIN1- (in), 2 RIN1+ (in), 3 RIN2+ (in), 4 RIN2- (in), 5 RIN3- (in), 6 RIN3+ (in), 7 RIN4+ (in), 8 RIN4- (in), 9 ~{EN} (in), 10 ROUT4 (out), 11 ROUT3 (out), 12 GND (power), 13 VCC (power), 14 ROUT2 (out), 15 ROUT1 (out), 16 EN (in)

## DS90LV048ATMTC
designator U?
3V LVDS Quad CMOS Differential Line Receiver; PartNumber: DS90LV048ATMTC; Manufacturer: National Semiconductor; CompType: Interface IC; PackageTopMarking: NS2ZXYTT*DS90LV*048AT; PowerWise: N; Published: 4-Dec-2008; DatasheetVersion: May-2001; PackageVersion: revD, Jun-2003; PackageReference: MTC16; Publisher: Altium Limited; PackageDescription: Molded TSSOP, Jedec, 5 x 4.4 x 0.9mm Body, 16 Lead, 0.65mm Pitch; RoHS: O; PinCount: 16; DigiKeyPartNumber: DS90LV048ATMTC/DRSN-; Code_JEDEC: MO-153-AB; ComponentLink1Description: DS90LV048A Datasheet; ComponentLink1URL: http://www.national.com/ds/DS/DS90LV048A.pdf; ComponentLink2Description: DS90LV048A Web Page; ComponentLink2URL: http://www.national.com/pf/DS/DS90LV048A.html; ComponentLink3Description: MTC16 Package Page; ComponentLink3URL: http://www.national.com/packaging/folders/mtc16.html
footprint MTC16_N (TSOP, 16-Leads, Body 5x4.4mm, Pitch 0.65mm, IPC Medium Density)
footprint MTC16_L (TSOP, 16-Leads, Body 5x4.4mm, Pitch 0.65mm, IPC High Density)
footprint MTC16_M (TSOP, 16-Leads, Body 5x4.4mm, Pitch 0.65mm, IPC Low Density)
pins: 1 RIN1- (in), 2 RIN1+ (in), 3 RIN2+ (in), 4 RIN2- (in), 5 RIN3- (in), 6 RIN3+ (in), 7 RIN4+ (in), 8 RIN4- (in), 9 ~{EN} (in), 10 ROUT4 (out), 11 ROUT3 (out), 12 GND (power), 13 VCC (power), 14 ROUT2 (out), 15 ROUT1 (out), 16 EN (in)